# Altium schematic symbol library Diodes.SchLib: 20 symbols
Pins are listed as number, name and electrical type; pins without a type are passive.

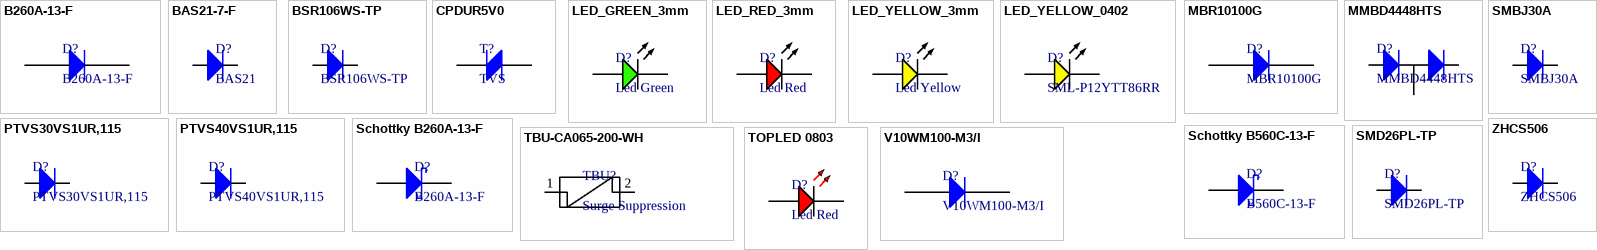
[diagram p0: symbols B260A-13-F to ZHCS506]

## B260A-13-F
designator D?
DIODE SCHOTTKY 60V 2A SMA; Manufacturer: Diodes Incorporated; Voltage - Forward (Vf) (Max) @ If: 700mV @ 2A; Speed: Fast Recovery =< 500ns, > 200mA (Io); Current - Reverse Leakage @ Vr: 500µA @ 60V; Capacitance @ Vr, F: 200pF @ 4V, 1MHz; Supplier 1: Digi-Key; Supplier Part Number 1: B260A-FDICT-ND; Manufacturer Part Number: B260A-13-F; RoHS: RoHS Compliant; Category: Discrete Semiconductor Products; Stock 1: 186619; Pricing 1: 1=0.63, 10=0.478, 100=0.2977, 500=0.20356, 1000=0.15646 (CAD); Packaging: Cut Tape (CT); Diode Type: Schottky; Voltage - DC Reverse (Vr) (Max): 60V; Current - Average Rectified (Io): 2A; Reverse Recovery Time (trr): -; Mounting Type: Surface Mount; Package / Case: DO-214AC, SMA; Supplier Device Package: SMA; Operating Temperature - Junction: -65°C ~ 150°C; ComponentLink1URL: http://www.diodes.com/_files/datasheets/ds13004.pdf; ComponentLink1Description: http://www.diodes.com/_files/datasheets/ds13004.pdf
footprint DO-214AC-SMA
pins: A, k K

## BAS21-7-F
designator D?, comment BAS21
DIODE GEN PURP 200V 200MA SOT23; Manufacturer: Diodes Incorporated; Manufacturer Part Number: BAS21-7-F; Diode Type: Standard; Voltage - Forward (Vf) (Max) @ If: 1.25V @ 200mA; Speed: Small Signal =< 200mA (Io), Any Speed; Reverse Recovery Time (trr): 50ns; Current - Reverse Leakage @ Vr: 100nA @ 200V; Capacitance @ Vr, F: 5pF @ 0V, 1MHz; Supplier 1: Digi-Key; RoHS: RoHS Compliant; Category: Discrete Semiconductor Products; Stock 1: 45515; Pricing 1: 1=0.19, 10=0.177, 100=0.0961, 500=0.05912, 1000=0.04031 (CAD); Packaging: Cut Tape (CT); Voltage - DC Reverse (Vr) (Max): 200V; Current - Average Rectified (Io): 200mA; Mounting Type: Surface Mount; Package / Case: TO-236-3, SC-59, SOT-23-3; Supplier Device Package: SOT-23-3; Operating Temperature - Junction: -65°C ~ 150°C; ComponentLink1URL: http://www.diodes.com/_files/datasheets/ds12004.pdf; ComponentLink1Description: http://www.diodes.com/_files/datasheets/ds12004.pdf; Supplier Part Number 1: BAS21-FDICT-ND
footprint SOT95P240X120-3N (SOT23, 3-Leads, Body 2.90x2.40mm, Pitch 0.95mm, IPC Medium Density)
pins: 1 A, 2 NC hidden, 3 K

## BSR106WS-TP
designator D?
DIODE SCHOTTKY 60V 1A SOD323; Manufacturer: Micro Commercial Co; Voltage - Forward (Vf) (Max) @ If: 700mV @ 1A; Speed: Fast Recovery =< 500ns, > 200mA (Io); Current - Reverse Leakage @ Vr: 100µA @ 60V; Capacitance @ Vr, F: 120pF @ 4V, 1MHz; Supplier 1: Digi-Key; Manufacturer Part Number: BSR106WS-TP; RoHS: RoHS Compliant; Category: Discrete Semiconductor Products; Stock 1: 9268; Pricing 1: 1=0.64, 10=0.46, 25=0.358, 100=0.271, 250=0.1916, 500=0.15336, 1000=0.11763 (CAD); Packaging: Cut Tape (CT); Diode Type: Schottky; Voltage - DC Reverse (Vr) (Max): 60V; Current - Average Rectified (Io): 1A; Reverse Recovery Time (trr): -; Mounting Type: Surface Mount; Package / Case: SC-76, SOD-323; Supplier Device Package: SOD-323; Operating Temperature - Junction: -65°C ~ 125°C; ComponentLink1URL: http://www.mccsemi.com/up_pdf/BSR106WS(SOD-323).pdf; ComponentLink1Description: http://www.mccsemi.com/up_pdf/BSR106WS(SOD-323).pdf; Supplier Part Number 1: BSR106WS-TPMSCT-ND
footprint DIOM1712X08L (Molded Diode, 2-Leads, Body 1.70x1.25mm, IPC High Density)
pins: 1 K, 2 A

## CPDUR5V0
designator T?, comment TVS
CPDUR5V0 SUPPRESSOR ESD 1CH BIDIR 0603; Supplier 1: Digi-Key; Supplier Part Number 1: 641-1220-1-ND
footprint DIODE_0603 (Chip Diode, 2-Leads, Body 1,6x0,8mm, IPC High Density)
pins: 1 A, 2 K

## LED_GREEN_3mm
designator D?, comment Led Green
LED 3MM GREEN DIFFUSED; Manufacturer: Lite-On Inc; Manufacturer Part Number: LTL-1CHG; Wavelength - Dominant: 569nm; Wavelength - Peak: 565nm; Millicandela Rating: 12.6mcd; Voltage - Forward (Vf) (Typ): 2.1V; Current - Test: 10mA; Viewing Angle: 60°; Lens Type: Diffused, Tinted; Lens Style/Size: Round with Domed Top, 3.1mm; Supplier 1: Digi-Key; Supplier Part Number 1: 160-1710-ND; RoHS: RoHS Compliant; Category: Optoelectronics; Stock 1: 23879; Pricing 1: 1=0.43, 10=0.309, 100=0.1631, 250=0.11092, 500=0.09788, 1000=0.07668, 2500=0.07505, 5000=0.06526, 10000=0.05873 (CAD); Packaging: Bulk; Color: Green; Package / Case: Radial; Size / Dimension: -; Height: 5.20mm; Mounting Type: Through Hole; Luminous Flux @ Current - Test: -; ComponentLink1URL: http://media.digikey.com/pdf/Data%20Sheets/Lite-On%20PDFs/LTL-1CHG.pdf; ComponentLink1Description: http://media.digikey.com/pdf/Data%20Sheets/Lite-On%20PDFs/LTL-1CHG.pdf
footprint LED_GREEN_3mm
pins: A, K

## LED_RED_3mm
designator D?, comment Led Red
LED 3MM HI-EFF RED DIFFUSED; Manufacturer: Lite-On Inc; Manufacturer Part Number: LTL-1CHE; Wavelength - Dominant: 623nm; Wavelength - Peak: 635nm; Millicandela Rating: 12.6mcd; Voltage - Forward (Vf) (Typ): 2V; Current - Test: 10mA; Viewing Angle: 60°; Lens Type: Diffused, Tinted; Lens Style/Size: Round with Domed Top, 3.1mm; Supplier 1: Digi-Key; Supplier Part Number 1: 160-1708-ND; RoHS: RoHS Compliant; Category: Optoelectronics; Stock 1: 37736; Pricing 1: 1=0.43, 10=0.309, 100=0.1631, 250=0.11092, 500=0.09788, 1000=0.07668, 2500=0.07505, 5000=0.06526, 10000=0.05873 (CAD); Packaging: Bulk; Color: Red; Package / Case: Radial; Size / Dimension: -; Height: 5.20mm; Mounting Type: Through Hole; Luminous Flux @ Current - Test: -; ComponentLink1URL: http://media.digikey.com/pdf/Data%20Sheets/Lite-On%20PDFs/LTL-1CHE.pdf; ComponentLink1Description: http://media.digikey.com/pdf/Data%20Sheets/Lite-On%20PDFs/LTL-1CHE.pdf
footprint LED_RED_3mm
pins: A, K

## LED_YELLOW_3mm
designator D?, comment Led Yellow
LED 3MM 585NM YELLOW DIFF; Manufacturer: Lite-On Inc; Manufacturer Part Number: LTL-1CHY; Wavelength - Dominant: 588nm; Millicandela Rating: 8.7mcd; Voltage - Forward (Vf) (Typ): 2.1V; Current - Test: 10mA; Viewing Angle: 60°; Lens Type: Diffused, Tinted; Lens Style/Size: Round with Domed Top, 3.1mm; Supplier 1: Digi-Key; Supplier Part Number 1: 160-1946-ND; RoHS: RoHS Compliant; Category: Optoelectronics; Stock 1: 3240; Pricing 1: 1=0.43, 10=0.309, 100=0.1631, 250=0.11092, 500=0.09788, 1000=0.07668, 2500=0.07505, 5000=0.06526, 10000=0.05873 (CAD); Packaging: Bulk; Color: Yellow; Wavelength - Peak: 585nm; Package / Case: Radial; Size / Dimension: -; Height: 5.20mm; Mounting Type: Through Hole; Luminous Flux @ Current - Test: -; ComponentLink1URL: http://media.digikey.com/pdf/Data%20Sheets/Lite-On%20PDFs/LTL-1CHY.pdf; ComponentLink1Description: http://media.digikey.com/pdf/Data%20Sheets/Lite-On%20PDFs/LTL-1CHY.pdf
footprint LED_YELLOW_3mm
pins: A, K

## LED_YELLOW_0402
designator D?, comment SML-P12YTT86RR
LED YELLOW CLEAR 1006 SMD; Manufacturer: Rohm Semiconductor; Configuration: Standard; Lens Color: Colorless; Millicandela Rating: 100mcd; Lens Style: Square with Flat Top; Lens Size: 0.60mm; Voltage - Forward (Vf) (Typ): 2.1V; Current - Test: 20mA; Wavelength - Dominant: 590nm; Supplier 1: Digi-Key; Manufacturer Part Number: SML-P12YTT86RR; RoHS: RoHS Compliant; Category: Optoelectronics; Stock 1: 9429; Pricing 1: 1=0.47, 10=0.335, 25=0.2736, 100=0.2189, 250=0.18472, 500=0.15736, 1000=0.12316, 2500=0.11289 (USD); Packaging: Cut Tape (CT); Part Status: Active; Color: Yellow; Lens Transparency: Clear; Viewing Angle: -; Mounting Type: Surface Mount; Wavelength - Peak: -; Features: -; Package / Case: 0402 (1006 Metric); Supplier Device Package: 1006 (0402); Size / Dimension: 1.00mm L x 0.60mm W; Height (Max): 0.25mm; ComponentLink1URL: https://www.rohm.com/datasheet/SML-P12DT(R); ComponentLink1Description: https://www.rohm.com/datasheet/SML-P12DT(R); Supplier Part Number 1: 846-1204-1-ND
footprint LED_YELLOW_0402
pins: A, K

## MBR10100G
designator D?
DIODE SCHOTTKY 100V 10A TO220-2; Manufacturer: ON Semiconductor; Speed: Fast Recovery =< 500ns, > 200mA (Io); Supplier 1: Digi-Key; Manufacturer Part Number: MBR10100G; RoHS: RoHS Compliant; Category: Discrete Semiconductor Products; Stock 1: 11138; Pricing 1: 1=1.32, 50=1.1178, 100=0.9181, 500=0.75848, 1000=0.5988 (CAD); Packaging: Tube; Part Status: Active; Diode Type: Schottky; Current - Average Rectified (Io): 10A; Capacitance @ Vr, F: -; Mounting Type: Through Hole; Package / Case: TO-220-2; Supplier Device Package: TO-220-2; Operating Temperature - Junction: -65°C ~ 175°C; Base Part Number: MBR10100; ComponentLink1URL: http://www.onsemi.com/pub/Collateral/MBR1080-D.PDF; ComponentLink1Description: http://www.onsemi.com/pub/Collateral/MBR1080-D.PDF; Supplier Part Number 1: MBR10100GOS-ND
footprint TO-220_A (TO, Thru-Hole, Vertical, Heatsink Mounted; 3 In-Line Leads (1 Absent); Pitch 2.54 mm)
pins: 3 A, 4 K

## MMBD4448HTS
designator D?
DIODE ARRAY 80V 250MA SOT523; Manufacturer: Micro Commercial Co; Manufacturer Part Number: MMBD4448HTS-TP; Diode Configuration: 1 Pair Series Connection; Diode Type: Standard; Voltage - Forward (Vf) (Max) @ If: 1.25V @ 150mA; Speed: Fast Recovery =< 500ns, > 200mA (Io); Reverse Recovery Time (trr): 4ns; Current - Reverse Leakage @ Vr: 100nA @ 70V; Supplier 1: Digi-Key; RoHS: RoHS Compliant; Category: Discrete Semiconductor Products; Stock 1: 225705; Pricing 1: 1=0.34, 10=0.314, 25=0.2256, 100=0.1756, 250=0.11032, 500=0.094, 1000=0.06404 (CAD); Packaging: Cut Tape (CT); Voltage - DC Reverse (Vr) (Max): 80V; Current - Average Rectified (Io) (per Diode): 250mA; Mounting Type: Surface Mount; Package / Case: SOT-523; Supplier Device Package: SOT-523; ComponentLink1URL: http://www.mccsemi.com/up_pdf/MMBD4448HT_HTC_HTA_HTS(SOT-523).pdf; ComponentLink1Description: http://www.mccsemi.com/up_pdf/MMBD4448HT_HTC_HTA_HTS(SOT-523).pdf; Supplier Part Number 1: MMBD4448HTS-TPMSCT-ND
footprint SOT50P162X90-3N (SOT23, 3-Leads, Body 1,7x1,8mm (max), Pitch 0,50mm, IPC Medium Density)
pins: 1 A, 2 K, 3 COM

## PTVS30VS1UR,115
designator D?
TVS DIODE 30VWM 48.4VC SOD123W; Manufacturer: Nexperia USA Inc.; Type: Zener; Voltage - Reverse Standoff (Typ): 30V; Voltage - Breakdown (Min): 33.3V; Voltage - Clamping (Max) @ Ipp: 48.4V; Current - Peak Pulse (10/1000µs): 8.3A; Power - Peak Pulse: 400W; Power Line Protection: No; Supplier 1: Digi-Key; Manufacturer Part Number: PTVS30VS1UR,115; RoHS: RoHS Compliant; Category: Circuit Protection; Stock 1: 9857; Pricing 1: 1=0.69, 10=0.56, 100=0.3816, 500=0.28616, 1000=0.21461 (CAD); Packaging: Cut Tape (CT); Part Status: Active; Applications: Automotive; Capacitance @ Frequency: -; Operating Temperature: -55°C ~ 150°C (TA); Mounting Type: Surface Mount; Package / Case: SOD-123W; Supplier Device Package: CFP3; ComponentLink1URL: http://assets.nexperia.com/documents/data-sheet/PTVSXS1UR_SER.pdf; ComponentLink1Description: http://assets.nexperia.com/documents/data-sheet/PTVSXS1UR_SER.pdf; Supplier Part Number 1: 1727-5870-1-ND
footprint SOD123F
pins: A, K

## PTVS40VS1UR,115
designator D?
TVS DIODE 40V 64.5V CFP3; Manufacturer: Nexperia USA Inc.; Type: Zener; Voltage - Breakdown (Min): 44.4V; Current - Peak Pulse (10/1000µs): 6.2A; Power - Peak Pulse: 400W; Power Line Protection: No; Supplier 1: Digi-Key; Manufacturer Part Number: PTVS40VS1UR,115; RoHS: RoHS Compliant; Category: Circuit Protection; Stock 1: 6005; Pricing 1: 1=0.44, 10=0.33, 100=0.2055, 500=0.1406, 1000=0.10815 (USD); Packaging: Cut Tape (CT); Part Status: Active; Voltage - Reverse Standoff (Typ): 40V; Voltage - Clamping (Max) @ Ipp: 64.5V; Applications: Automotive; Capacitance @ Frequency: -; Operating Temperature: -55°C ~ 150°C (TA); Mounting Type: Surface Mount; Package / Case: SOD-123W; Supplier Device Package: CFP3; Base Part Number: PTVS*S1UR; ComponentLink1URL: https://assets.nexperia.com/documents/data-sheet/PTVSXS1UR_SER.pdf; ComponentLink1Description: https://assets.nexperia.com/documents/data-sheet/PTVSXS1UR_SER.pdf; Supplier Part Number 1: 1727-5873-1-ND
footprint SOD123F
pins: A, K

## Schottky B260A-13-F
designator D?, comment B260A-13-F
DIODE SCHOTTKY 60V 2A SMA; Manufacturer: Diodes Incorporated; Voltage - Forward (Vf) (Max) @ If: 700mV @ 2A; Speed: Fast Recovery =< 500ns, > 200mA (Io); Current - Reverse Leakage @ Vr: 500µA @ 60V; Capacitance @ Vr, F: 200pF @ 4V, 1MHz; Supplier 1: Digi-Key; Supplier Part Number 1: B260A-FDICT-ND; Manufacturer Part Number: B260A-13-F; RoHS: RoHS Compliant; Category: Discrete Semiconductor Products; Stock 1: 86911; Pricing 1: 1=0.61, 10=0.476, 25=0.4012, 100=0.3272, 250=0.27104, 500=0.22388, 1000=0.16768, 2500=0.15408 (CAD); Packaging: Cut Tape (CT); Diode Type: Schottky; Voltage - DC Reverse (Vr) (Max): 60V; Current - Average Rectified (Io): 2A; Reverse Recovery Time (trr): -; Mounting Type: Surface Mount; Package / Case: DO-214AC, SMA; Supplier Device Package: SMA; Operating Temperature - Junction: -65°C ~ 150°C; ComponentLink1URL: http://www.diodes.com/datasheets/ds13004.pdf; ComponentLink1Description: http://www.diodes.com/datasheets/ds13004.pdf
footprint DO-214AC-SMA
pins: A, K

## Schottky B560C-13-F
designator D?, comment B560C-13-F
DIODE SCHOTTKY 60V 5A SMC; Manufacturer: Diodes Incorporated; Voltage - Forward (Vf) (Max) @ If: 700mV @ 5A; Speed: Fast Recovery =< 500ns, > 200mA (Io); Current - Reverse Leakage @ Vr: 500µA @ 60V; Capacitance @ Vr, F: 300pF @ 4V, 1MHz; Supplier 1: Digi-Key; Manufacturer Part Number: B560C-13-F; RoHS: RoHS Compliant; Category: Discrete Semiconductor Products; Stock 1: 88534; Pricing 1: 1=0.78, 10=0.657, 25=0.5756, 100=0.4927, 250=0.42732, 500=0.36194, 1000=0.27903 (CAD); Packaging: Cut Tape (CT); Diode Type: Schottky; Voltage - DC Reverse (Vr) (Max): 60V; Current - Average Rectified (Io): 5A; Reverse Recovery Time (trr): -; Mounting Type: Surface Mount; Package / Case: DO-214AB, SMC; Supplier Device Package: SMC; Operating Temperature - Junction: -55°C ~ 150°C; ComponentLink1URL: http://www.diodes.com/_files/datasheets/ds13012.pdf; ComponentLink1Description: http://www.diodes.com/_files/datasheets/ds13012.pdf; Supplier Part Number 1: B560C-FDICT-ND
footprint DP-214AB-SMC
pins: A, K

## SMBJ30A
designator D?
TVS DIODE 30VWM 48.4VC SMB; Manufacturer: Fairchild Semiconductor; Type: Zener; Unidirectional Channels: 1; Voltage - Reverse Standoff (Typ): 30V; Voltage - Breakdown (Min): 33.3V; Voltage - Clamping (Max) @ Ipp: 48.4V; Current - Peak Pulse (10/1000µs): 12.4A; Power - Peak Pulse: 600W; Power Line Protection: No; Supplier 1: Digi-Key; Supplier Part Number 1: SMBJ30AFSCT-ND; Manufacturer Part Number: SMBJ30A; RoHS: RoHS Compliant; Category: Circuit Protection; Stock 1: 10609; Pricing 1: 1=0.57, 10=0.413, 25=0.3208, 100=0.243, 250=0.17176, 500=0.1375, 1000=0.10547 (USD); Packaging: Cut Tape (CT); Bidirectional Channels: -; Applications: General Purpose; Capacitance @ Frequency: -; Operating Temperature: -55°C ~ 150°C (TJ); Mounting Type: Surface Mount; Package / Case: DO-214AA, SMB; Supplier Device Package: DO-214AA (SMB); ComponentLink1URL: http://www.fairchildsemi.com/datasheets/SM/SMBJ26CA.pdf; ComponentLink1Description: http://www.fairchildsemi.com/datasheets/SM/SMBJ26CA.pdf
footprint DO-214AA-SMB (Molded Diode, 2-Leads, IPC Medium Density)
pins: 1 K, 2 A

## SMD26PL-TP
designator D?
DIODE SCHOTTKY 60V 2A SOD-123; Manufacturer: Micro Commercial Co; Voltage - Forward (Vf) (Max) @ If: 700mV @ 2A; Speed: Fast Recovery =< 500ns, > 200mA (Io); Current - Reverse Leakage @ Vr: 500µA @ 60V; Supplier 1: Digi-Key; Manufacturer Part Number: SMD26PL-TP; RoHS: RoHS Compliant; Category: Discrete Semiconductor Products; Stock 1: 42143; Pricing 1: 1=0.7, 10=0.492, 25=0.404, 100=0.3227, 250=0.23504, 500=0.19086, 1000=0.1467 (CAD); Packaging: Cut Tape (CT); Diode Type: Schottky; Voltage - DC Reverse (Vr) (Max): 60V; Current - Average Rectified (Io): 2A; Reverse Recovery Time (trr): -; Capacitance @ Vr, F: -; Mounting Type: Surface Mount; Package / Case: SOD-123F; Supplier Device Package: SOD-123FL; Operating Temperature - Junction: -65°C ~ 125°C; ComponentLink1URL: http://www.mccsemi.com/up_pdf/SMD22PL-SMD210PL(SOD-123FL).pdf; ComponentLink1Description: http://www.mccsemi.com/up_pdf/SMD22PL-SMD210PL(SOD-123FL).pdf; Supplier Part Number 1: SMD26PL-TPMSCT-ND
footprint SOD123F
pins: A, K

## TBU-CA065-200-WH
designator TBU?, comment Surge Suppression
SURGE SUPP TBU 200MA 650VIMP SMD; Manufacturer: Bourns Inc.; Manufacturer Part Number: TBU-CA065-200-WH; Voltage - Clamping: 650V; Voltage - Working: 300V; Supplier 1: Digi-Key; RoHS: RoHS Compliant; Category: Circuit Protection; Stock 1: 64370; Pricing 1: 1=2.65, 10=2.398, 25=2.1404, 100=1.9263, 250=1.71216, 500=1.49816, 1000=1.24134 (CAD); Packaging: Cut Tape (CT); Part Status: Active; Technology: Internal Switch; Applications: General Purpose; Mounting Type: Surface Mount; Package / Case: SMD 6.50mm x 4.00mm; Supplier Device Package: SMD; Power (Watts): -; ComponentLink1URL: http://www.bourns.com/docs/Product-Datasheets/TBU-CA.pdf; ComponentLink1Description: http://www.bourns.com/docs/Product-Datasheets/TBU-CA.pdf; Supplier Part Number 1: TBU-CA065-200-WHCT-ND
footprint Bourns_TBU-CA (TBU-CA Series - TBU  ®   High-Speed Protectors)
pins: 1, 2

## TOPLED 0803
designator D?, comment Led Red
LED TOPLED 630NM SUP RED CLR SMD; Manufacturer: OSRAM Opto Semiconductors Inc; Manufacturer Part Number: LS M67K-H2L1-1-Z; Wavelength - Peak: 643nm; Millicandela Rating: 8.78mcd; Voltage - Forward (Vf) (Typ): 1.8V; Current - Test: 2mA; Viewing Angle: 120°; Lens Type: Clear; Lens Style/Size: Rectangle with Flat Top, 1.5mm x 1mm; Luminous Flux @ Current - Test: 25 mlm; Supplier 1: Digi-Key; Supplier Part Number 1: 475-2510-1-ND; RoHS: RoHS Compliant; Category: Optoelectronics; Stock 1: 23262; Pricing 1: 1=0.19, 10=0.162, 100=0.1295, 250=0.11328, 500=0.10354 (CAD); Packaging: Cut Tape (CT); Color: Red; Wavelength - Dominant: 630nm; Package / Case: 2-SMD, J-Lead; Size / Dimension: 2.20mm L x 1.40mm W; Height: 1.30mm; Mounting Type: Surface Mount; ComponentLink1URL: http://media.digikey.com/pdf/Data%20Sheets/Osram%20PDFs/LS,LO,LY_M67K.pdf; ComponentLink1Description: http://media.digikey.com/pdf/Data%20Sheets/Osram%20PDFs/LS,LO,LY_M67K.pdf
footprint TOPLED 0805
pins: 1 A, 2 K

## V10WM100-M3/I
designator D?
DIODE SCHOTTKY 10A 100V DPAK; Manufacturer: Vishay Semiconductor Diodes Division; Speed: Fast Recovery =< 500ns, > 200mA (Io); Supplier 1: Digi-Key; Manufacturer Part Number: V10WM100-M3/I; RoHS: RoHS Compliant; Category: Discrete Semiconductor Products; Stock 1: 4795; Pricing 1: 1=1.85, 10=1.662, 100=1.2962, 500=1.07072, 1000=0.84532 (CAD); Packaging: Cut Tape (CT); Part Status: Active; Diode Type: Schottky; Current - Average Rectified (Io): 10A; Capacitance @ Vr, F: -; Mounting Type: Surface Mount; Package / Case: TO-252-3, DPak (2 Leads + Tab), SC-63; Supplier Device Package: TO-252, (D-Pak); Operating Temperature - Junction: -40°C ~ 150°C; ComponentLink1URL: http://www.vishay.com/docs/89971/v10wm100-m3.pdf; ComponentLink1Description: http://www.vishay.com/docs/89971/v10wm100-m3.pdf; Supplier Part Number 1: V10WM100-M3/IGICT-ND
footprint DPAK229P1003X238-3N (D-PAK, 3-Pads, Body 6.21x6.73mm (max), IPC Medium Density)
pins: 3 A, 4 K

## ZHCS506
designator D?
DIODE SCHOTTKY 60V 500MA SOT23-3; Manufacturer: Diodes Incorporated; Manufacturer Part Number: ZHCS506TA; Current - Average Rectified (Io): 500mA (DC); Voltage - Forward (Vf) (Max) @ If: 630mV @ 500mA; Speed: Fast Recovery =< 500ns, > 200mA (Io); Reverse Recovery Time (trr): 10ns; Current - Reverse Leakage @ Vr: 40µA @ 45V; Capacitance @ Vr, F: 20pF @ 25V, 1MHz; Supplier 1: Digi-Key; RoHS: RoHS Compliant; Category: Discrete Semiconductor Products; Stock 1: 13090; Pricing 1: 1=0.76, 10=0.641, 25=0.5616, 100=0.4808, 250=0.41696, 500=0.35318, 1000=0.27226 (CAD); Packaging: Cut Tape (CT); Diode Type: Schottky; Voltage - DC Reverse (Vr) (Max): 60V; Mounting Type: Surface Mount; Package / Case: TO-236-3, SC-59, SOT-23-3; Supplier Device Package: SOT-23-3; Operating Temperature - Junction: 125°C (Max); ComponentLink1URL: http://www.diodes.com/datasheets/ZHCS506.pdf; ComponentLink1Description: http://www.diodes.com/datasheets/ZHCS506.pdf; Supplier Part Number 1: ZHCS506CT-ND
footprint DIOM1712X08L (Molded Diode, 2-Leads, Body 1.70x1.25mm, IPC High Density)
pins: 1 K, 2 A